# EAGLE library part INA225 (library misc)
Bidirectional current shunt amplifier with programmable gain - 8-VSSOP
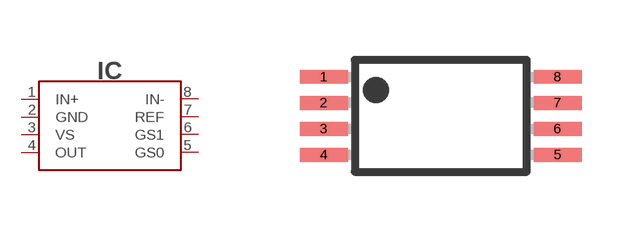
[diagram p73: symbol with the pads of TSSOP8; footprint TSSOP8]

Designator prefix IC

## INA225-TSSOP8 (DIGIKEY#: 296-46096-1-ND; LCSC#: C485974; MANF: Texas Instruments; MANF#: INA225AIDGKR)  [TSSOP8]
1  IN+
2  GND
3  VS
4  OUT
5  GS0
6  GS1
7  REF
8  IN-

## Footprint TSSOP8 (pad centres in mm)
smd 1.2 x 0.35: 1 -2.925,0.975; 2 -2.925,0.325; 3 -2.925,-0.325; 4 -2.925,-0.975; 5 2.925,-0.975; 6 2.925,-0.325; 7 2.925,0.325; 8 2.925,0.975